# EAGLE library part MAX232DR (library MAÑE)
Dual EIA-232 Drivers/Receivers
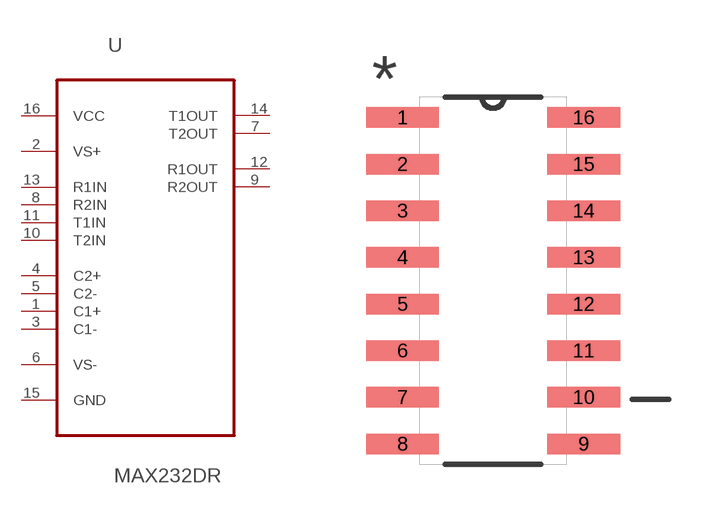
[diagram p16: symbol with the pads of SOIC127P600X175-16N; footprint SOIC127P600X175-16N]

Designator prefix U

## MAX232DR (MPN: MAX232DR; OC_FARNELL: 1575481; OC_NEWARK: 75C0971; PACKAGE: SOIC-16; SUPPLIER: TEXAS INSTRUMENTS)  [SOIC127P600X175-16N]
1  C1+  in
2  VS+  in
3  C1-  in
4  C2+  in
5  C2-  in
6  VS-  in
7  T2OUT  out
8  R2IN  in
9  R2OUT  out
10  T2IN  in
11  T1IN  in
12  R1OUT  out
13  R1IN  in
14  T1OUT  out
15  GND  pas
16  VCC  pwr

## Footprint SOIC127P600X175-16N (pad centres in mm)
smd 1.981 x 0.559: 1 -2.464,4.445; 2 -2.464,3.175; 3 -2.464,1.905; 4 -2.464,0.635; 5 -2.464,-0.635; 6 -2.464,-1.905; 7 -2.464,-3.175; 8 -2.464,-4.445; 9 2.464,-4.445; 10 2.464,-3.175; 11 2.464,-1.905; 12 2.464,-0.635; 13 2.464,0.635; 14 2.464,1.905; 15 2.464,3.175; 16 2.464,4.445